# Altium schematic symbol library Pulser Driver 4,3.SCHLIB: 86 symbols
Pins are listed as number, name and electrical type; pins without a type are passive.

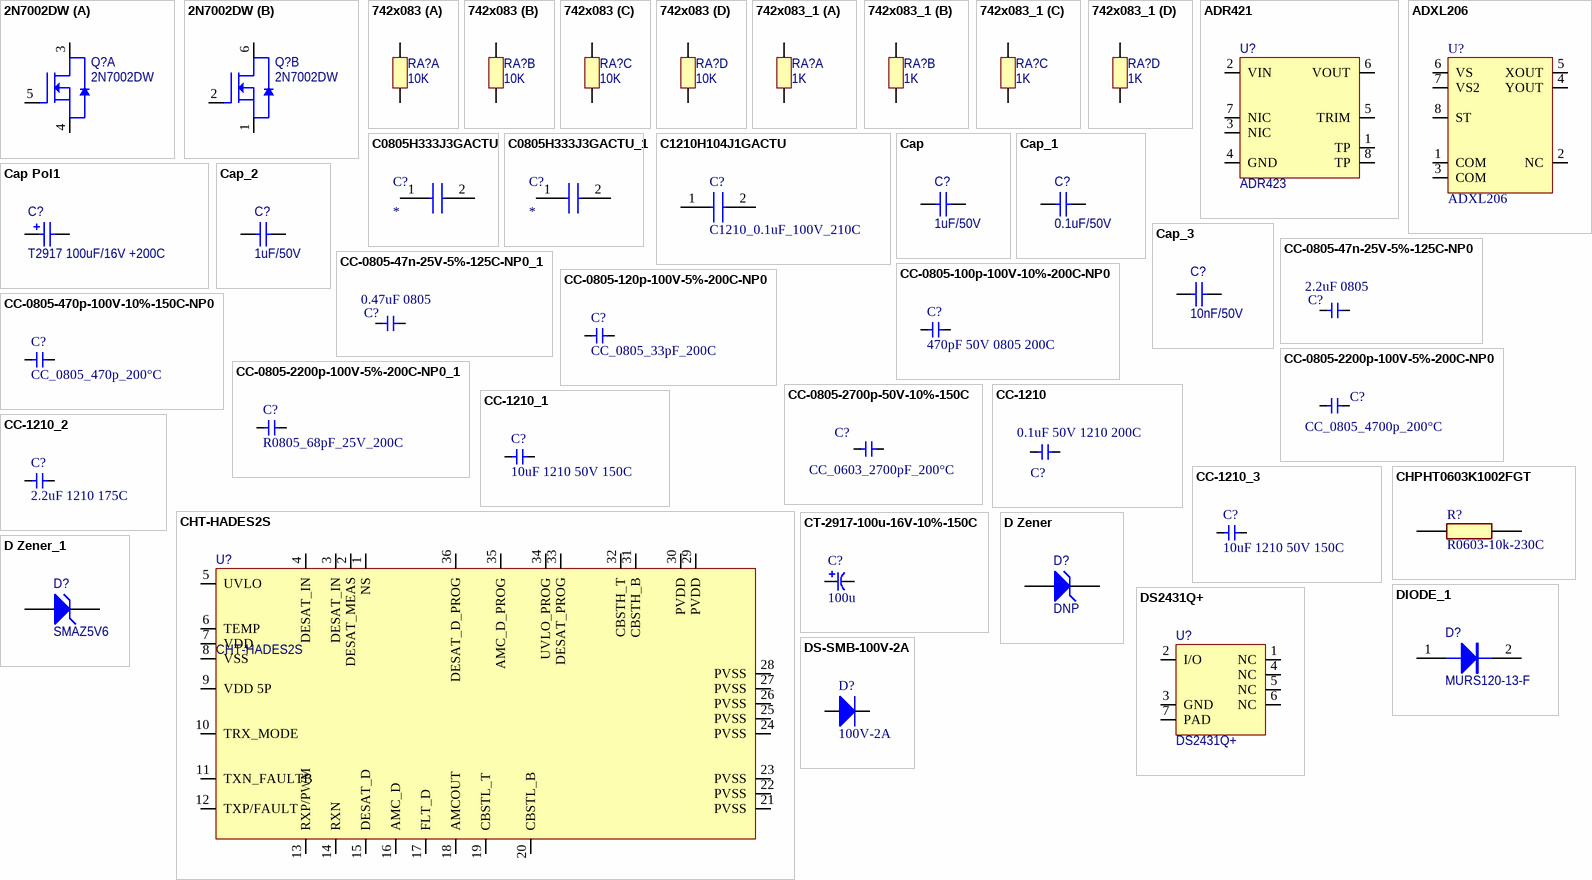
[diagram p0: symbols 2N7002DW to DS-SMB-100V-2A]

## 2N7002DW
designator Q?
2N7002DW Dual N-Channel FET SC-70-6; Manufacturer: Fairchild Semiconductor; Vendor PN: 2N7002DWCT-ND; Vendor: Digi-Key; Vertex PN: 6500000; Manu PN: 2N7002DW
footprint DCK-6
part A pins: 3 D1, 4 S1, 5 G1
part B pins: 1 S2, 2 G2, 6 D2

## 742x083
designator RA?, comment 10K
742 4-Isolated 50V (0603x4) Resistor Array; Manufacturer: CTS Resistor Products; Vendor PN: 742C083103JPCT-ND; Vendor: Digi-Key; Manu PN: 742C083103JP; Vertex PN: 6108103
footprint 742x083 (742x083 4-Isolated Resistor Array)
part A pins: 1, 2
part B pins: 3, 4
part C pins: 5, 6
part D pins: 7, 8

## 742x083_1
designator RA?, comment 1K
742 4-Isolated 50V (0603x4) Resistor Array; Manufacturer: CTS Resistor Products; Vendor PN: 742C083102JPCT-ND; Vendor: Digi-Key; Manu PN: 742C083102JP; Vertex PN: 6108102
footprint 742x083 (742x083 4-Isolated Resistor Array)
part A pins: 1, 2
part B pins: 3, 4
part C pins: 5, 6
part D pins: 7, 8

## ADR421
designator U?, comment ADR423
ADR423 3.0V Voltage Reference; Manufacturer: Analog Devices Inc; Vendor PN: ADR423ARZ-ND; Vendor: Digi-Key; Manu PN: ADR423ARZ; Vertex PN: 6400002
footprint D8
pins: 1 TP, 2 VIN, 3 NIC, 4 GND, 5 TRIM, 6 VOUT, 7 NIC, 8 TP

## ADXL206
designator U?
ADXL206 5g High Temperature Accelerometer; Manufacturer: Analog Devices Inc.; Vendor: Digi-Key; Vendor PN: ADXL206HDZ-ND; Manu PN: ADXL206HDZ; Vertex PN: 6900007
footprint SBDIP-8 (Analog Devices ceramic DIP-8)
footprint D_8_1_ADI
pins: 1 COM, 2 NC, 3 COM, 4 YOUT, 5 XOUT, 6 VS, 7 VS2, 8 ST

## C0805H333J3GACTU
designator C?
Capacitor; Manufacturer_Name: KEMET; Manufacturer_Part_Number: C0805H333J3GACTU; Description: SMD Indust C0G HT200C; Datasheet Link: https://content.kemet.com/datasheets/KEM_C1001_C0G_200C_SMD.pdf; Height: 1.1mm; Mouser Part Number: 80-C0805H333J3G; Mouser Price/Stock: https://www.mouser.com/Search/Refine.aspx?Keyword=80-C0805H333J3G
footprint C0805
pins: 1, 2

## C0805H333J3GACTU_1
designator C?
Capacitor; Manufacturer_Name: KEMET; Manufacturer_Part_Number: C0805H333J3GACTU; Description: SMD Indust C0G HT200C; Datasheet Link: https://content.kemet.com/datasheets/KEM_C1001_C0G_200C_SMD.pdf; Height: 1.1mm; Mouser Part Number: 80-C0805H333J3G; Mouser Price/Stock: https://www.mouser.com/Search/Refine.aspx?Keyword=80-C0805H333J3G
footprint C0805
pins: 1, 2

## C1210H104J1GACTU
designator C?, comment C1210_0.1uF_100V_210C
Capacitor; Manufacturer_Name: KEMET; Manufacturer_Part_Number: C1210H104J1GACTU; Datasheet Link: https://content.kemet.com/datasheets/KEM_C1001_C0G_200C_SMD.pdf; Mouser Part Number: 80-C1210H104J1GACTU; Mouser Price/Stock: https://www.mouser.co.uk/ProductDetail/KEMET/C1210H104J1GACTU?qs=w3%252Bcv6FlocpP4mccX4tnSA%3D%3D; Operating Temperature Range: -55C to +200C
footprint C1210
pins: 1, 2

## Cap
designator C?, comment 1uF/50V
Capacitor; Manufacturer: Murata Electronics North America; Vendor: Digi-Key; Vendor PN: 490-4795-1-ND; Manu PN: GCM31MR71H105KA55L; Vertex PN: 6221004
footprint VP45-3.2 (Capacitor, Ceramic, Thru-Hole, Dipped Radial; Body 7.8 x 3.2 mm (WxT) Pin Spacing 5.08 mm (typ))
footprint YC_1206
footprint 1206-CR
pins: 1, 2

## Cap Pol1
designator C?, comment T2917 100uF/16V +200C
SMT Tantalum Electrolytic Capacitor; Manufacturer: Kemet; Vendor PN: 399-T500X107K016BG6110TR-ND; Vendor: Digi-Key; Manu PN: T500X107K016BG6110; Vertex PN: 6271006-01
footprint 7343-TANT
pins: 1, 2
1 alternate drawing of the same symbol

## Cap_1
designator C?, comment 0.1uF/50V
Capacitor; Manufacturer: Murata Electronics North America; Vendor: Digi-Key; Vendor PN: 490-1666-1-ND; Manu PN: GRM21BR71H104KA01L; Vertex PN: 6280000
footprint 0805-CR
pins: 1, 2

## Cap_2
designator C?, comment 1uF/50V
Capacitor; Manufacturer: TDK; Vendor: Digi-Key; Vendor PN: 445-CGA4J1X8L1H105K125ACCT-ND; Manu PN: CGA4J1X8L1H105K125AC; Vertex PN: TBD
footprint VP45-3.2 (Capacitor, Ceramic, Thru-Hole, Dipped Radial; Body 7.8 x 3.2 mm (WxT) Pin Spacing 5.08 mm (typ))
footprint 0805-CR
pins: 1, 2

## Cap_3
designator C?, comment 10nF/50V
Capacitor; Manufacturer: Murata Electronics North America; Vendor: Digi-Key; Vendor PN: 490-1642-1-ND; Manu PN: GRM2195C1H103JA01D; Vertex PN: 6281002
footprint 0805-CR
pins: 1, 2

## CC-0805-47n-25V-5%-125C-NP0
designator C?, comment value 2.2uF 0805  (hidden comment: C0805C272K5HACTU)
CAPACITOR CER 0.047UF 25V C0G/NP0 0805; Tolerance: ±5%; Temp. Coeff.: C0G, NP0; Mfg: KEMET; MfgPN: C0805C473J3GACAUTO; Vendor: Digi-Key; VendorPN: 399-6970; Do not load: 0; Class: Epart; CES#: *; Voltage: 25V; Temperature: -55°C ~ 125°C; Height: 1.25mm; Unit Price: 0.95; Notes: *; Package: CC-0805; Dimension: 2.00mm x 1.25mm; #1Mfg: *; #1MfgPN: *; Temperature Tested: *
footprint CC-0805 (0805 footprint for capacitor)
footprint 0805
pins: 1, 2

## CC-0805-47n-25V-5%-125C-NP0_1
designator C?, comment value 0.47uF 0805  (hidden comment: C0805C272K5HACTU)
CAPACITOR CER 0.047UF 25V C0G/NP0 0805; Tolerance: ±5%; Temp. Coeff.: C0G, NP0; Mfg: KEMET; MfgPN: C0805C473J3GACAUTO; Vendor: Digi-Key; VendorPN: 399-6970; Do not load: 0; Class: Epart; CES#: *; Voltage: 25V; Temperature: -55°C ~ 125°C; Height: 1.25mm; Unit Price: 0.95; Notes: *; Package: CC-0805; Dimension: 2.00mm x 1.25mm; #1Mfg: *; #1MfgPN: *; Temperature Tested: *
footprint CC-0805 (0805 footprint for capacitor)
footprint 0805
pins: 1, 2

## CC-0805-100p-100V-10%-200C-NP0
designator C?, comment value 470pF 50V 0805 200C  (hidden comment: C1206H104J3GACTU)
CAP CER 470PF 50V C0G/NP0 0805 200C; Voltage: 100V; Tolerance: ±5%; Temp. Coeff.: C0G, NP0; Mfg: Vishay Vitramont; MfgPN: VJ0805D471JXAQJHT; Vendor: Digi-Key; VendorPN: 720-VJ0805D471JXAQJHTCT-ND; Do not load: 0; Class: Epart; Temperature: -55°C ~ 200°C; Height: 1.37mm; Unit Price: 0.34; Notes: *; Package: CC-0805; Dimension: 1.60mm x 0.80mm; #1Mfg: *; #1MfgPN: *; Temperature Tested: *
footprint CC-0805 (0805 footprint for capacitor)
footprint 0805
footprint 1210
pins: 1, 2

## CC-0805-120p-100V-5%-200C-NP0
designator C?, comment value CC_0805_33pF_200C  (hidden comment: C1206H104J3GACTU)
CAPACITOR CER 120PF 250V NP0 0805; Tolerance: ±5%; Temp. Coeff.: C0G, NP0; Mfg: Knowles Novacap; MfgPN: 0805D121J251KHT; Vendor: Digi-Key; Do not load: 0; Class: Epart; Voltage: 250V; Temperature: -55°C ~ 200°C; Height: 1.37mm; VendorPN: 0805D121J251KHT; Unit Price: 0.25; Notes: *; Package: CC-0805; Dimension: 2.03mm x 1.27mm; #1Mfg: *; #1MfgPN: *; Temperature Tested: *
footprint CC-0805 (0805 footprint for capacitor)
footprint 0805
footprint 1210
pins: 1, 2

## CC-0805-470p-100V-10%-150C-NP0
designator C?, comment value CC_0805_470p_200°C  (hidden comment: C0805H471J1GACTU)
CAPACITOR CER 470PF 100V C0G/NP0 0805; Tolerance: ±10%; Temp. Coeff.: C0G, NP0; Mfg: KEMET; Vendor: Digi-Key; VendorPN: 720-1262; Do not load: 0; Class: Epart; CES#: *; Voltage: 100V; Temperature: -55°C ~ 200°C; Height: 1.25mm; MfgPN: C0805H471J1GACTU; Unit Price: 0.47; Notes: *; Package: CC-0805; Dimension: 2.00mm x 1.25mm; #1Mfg: *; #1MfgPN: *; Temperature Tested: *
footprint CC-0805 (0805 footprint for capacitor)
footprint 0805
pins: 1, 2

## CC-0805-2200p-100V-5%-200C-NP0
designator C?, comment value CC_0805_4700p_200°C  (hidden comment: C0805H472J1GACT500)
CAPACITOR CER 2200PF 100V C0G/NP0 0805; Tolerance: ±5%; Temp. Coeff.: C0G, NP0; Mfg: KEMET; Vendor: Digi-Key; VendorPN: 399-9996-2-ND; Do not load: 0; Class: Epart; Voltage: 100V; Temperature: -55°C ~ 200°C; Height: 0.9mm; MfgPN: C0805H472J1GACT500; Unit Price: 2.65; Notes: *; Package: CC-0805; Dimension: 2.00mm x 1.25mm; #1Mfg: *; #1MfgPN: *; Temperature Tested: *; Supplier 1: Digi-Key
footprint CC-0805 (0805 footprint for capacitor)
footprint 0805
pins: 1, 2

## CC-0805-2200p-100V-5%-200C-NP0_1
designator C?, comment value R0805_68pF_25V_200C  (hidden comment: C0805H680J3GACTU)
CAPACITOR CER 2200PF 100V C0G/NP0 0805; Tolerance: ±5%; Temp. Coeff.: C0G, NP0; Mfg: KEMET; Vendor: Mouser; VendorPN: 80-C0805H680J3G; Do not load: 0; Class: Epart; Voltage: 100V; Temperature: -55°C ~ 200°C; Height: 0.9mm; MfgPN: C0805H680J3GACTU; Unit Price: 2.65; Notes: *; Package: CC-0805; Dimension: 2.00mm x 1.25mm; #1Mfg: *; #1MfgPN: *; Temperature Tested: *; Supplier 1: Digi-Key
footprint CC-0805 (0805 footprint for capacitor)
footprint 0805
pins: 1, 2

## CC-0805-2700p-50V-10%-150C
designator C?, comment value CC_0603_2700pF_200°C  (hidden comment: C1206H104J3GACTU)
CAPACITOR CER 2700PF 50V X8R 0805; Tolerance: ±5%; Temp. Coeff.: C0G; Mfg: KEMET; MfgPN: C0603H272J5GACTU; Vendor: Digi-Key; VendorPN: 399-C0603H272J5GACTUCT-ND; Do not load: 0; Class: Epart; CES#: *; Voltage: 50V; Temperature: -55°C ~ 200°C; Height: 1.25mm; Unit Price: 0.84; Notes: *; Package: CC-0805; Dimension: 2.00mm x 1.25mm; #1Mfg: *; #1MfgPN: *; Temperature Tested: *
footprint CC-0805 (0805 footprint for capacitor)
footprint 0805
footprint 1210
footprint 0603
pins: 1, 2

## CC-1210
designator C?, comment value 0.1uF 50V 1210 200C  (hidden comment: 0805D121J251KHT)
CAP CER 0.1UF 50V C0G/NP0 1210 200C; Voltage: 25V; Tolerance: ±5%; Temp. Coeff.: C0G, NP0; Mfg: KEMET; MfgPN: C1206H104J3GACTU; Vendor: Digi-Key; VendorPN: 399-5750; Do not load: 0; Class: Epart; CES#: *; Temperature: -55°C ~ 200°C; Height: 1.6mm; Unit Price: 19.5; Notes: *; Package: CC-1206; Dimension: 3.20mm x 1.60mm; #1Mfg: *; #1MfgPN: *; Temperature Tested: *
footprint CC-1206 (1206 footprint for capacitor)
footprint 1210
footprint 0805
pins: 1, 2

## CC-1210_1
designator C?, comment value 10uF 1210 50V 150C  (hidden comment: GCM32EL8EH106KA07K)
CAP CER 0.1UF 50V C0G/NP0 1210 200C; Tolerance: ±5%; Temp. Coeff.: X8L; Mfg: Murata Electronics; Vendor: Digi-Key; VendorPN: 490-GCM32EL8EH106KA07KCT-ND; Do not load: 0; Class: Epart; CES#: *; Voltage: 50V; Temperature: -55°C ~ 200°C; Height: 1.6mm; MfgPN: GCM32EL8EH106KA07K; Unit Price: 19.5; Notes: *; Package: CC-1210; Dimension: 3.20mm x 1.60mm; #1Mfg: *; #1MfgPN: *; Temperature Tested: *
footprint CC-1206 (1206 footprint for capacitor)
footprint 1210
pins: 1, 2

## CC-1210_2
designator C?, comment value 2.2uF 1210 175C  (hidden comment: C1206H104J3GACTU)
CAP CER 0.1UF 50V C0G/NP0 1210 200C; Voltage: 25V; Tolerance: ±5%; Temp. Coeff.: C0G, NP0; Mfg: KEMET; Vendor: Digi-Key; VendorPN: 399-5750; Do not load: 0; Class: Epart; CES#: *; Temperature: -55°C ~ 200°C; Height: 1.6mm; MfgPN: C1206H104J3GACTU; Unit Price: 19.5; Notes: *; Package: CC-1206; Dimension: 3.20mm x 1.60mm; #1Mfg: *; #1MfgPN: *; Temperature Tested: *
footprint CC-1206 (1206 footprint for capacitor)
footprint 1210
pins: 1, 2

## CC-1210_3
designator C?, comment value 10uF 1210 50V 150C  (hidden comment: GCM32EL8EH106KA07K)
CAP CER 0.1UF 50V C0G/NP0 1210 200C; Tolerance: ±10%; Temp. Coeff.: X8L; Mfg: Murata Electronics; Vendor: Digi-Key; VendorPN: 490-GCM32EL8EH106KA07KCT-ND; Do not load: 0; Class: Epart; CES#: *; Voltage: 50V; Temperature: -55°C ~ 150°C; Height: 1.6mm; MfgPN: GCM32EL8EH106KA07K; Unit Price: 19.5; Notes: *; Package: CC-1210; Dimension: 3.20mm x 1.60mm; #1Mfg: *; #1MfgPN: *; Temperature Tested: *
footprint CC-1206 (1206 footprint for capacitor)
footprint 1210
pins: 1, 2

## CHPHT0603K1002FGT
designator R?, comment R0603-10k-230C
Thick Film Resistors - SMD 12.5mWatts 10Kohms1% 1% 230 C Op Temp; Manufacturer_Name: Vishay; Manufacturer_Part_Number: CHPHT0603K1002FGT; Geometry.Height: 0.507mm; Mouser Part Number: 71-CHPHT0603K1002FGT; Mouser Price/Stock: https://www.mouser.co.uk/ProductDetail/Vishay-Sfernice/CHPHT0603K1002FGT?qs=hcpCFr%252B3G5Pwu6l3MBe29g%3D%3D; Datasheet Link: https://www.vishay.com/docs/52032/chpht.pdf; Operating Temperature Range: -55°C ~ 230°C
footprint RESC1609X51N
footprint 0603
pins: 1, 2

## CHT-HADES2S
designator U?
CHT-HADES2S High Temperautre Gate DRiver  Secondary Sde IC DriverL&; Manufacturer: TI; Vendor: CISSOID; Vertex PN: TBD; Manu PN: CHT-HADES2S
pins: 1 NS, 2 DESAT_MEAS, 3 DESAT_IN, 4 DESAT_IN, 5 UVLO, 6 TEMP, 7 VDD, 8 VSS, 9 VDD 5P, 10 TRX_MODE, 11 TXN_FAULTB, 12 TXP/FAULT, 13 RXP/PWM, 14 RXN, 15 DESAT_D, 16 AMC_D, 17 FLT_D, 18 AMCOUT, 19 CBSTL_T, 20 CBSTL_B, 21 PVSS, 22 PVSS, 23 PVSS, 24 PVSS, 25 PVSS, 26 PVSS, 27 PVSS, 28 PVSS, 29 PVDD, 30 PVDD, 31 CBSTH_B, 32 CBSTH_T, 33 DESAT_PROG, 34 UVLO_PROG, 35 AMC_D_PROG, 36 DESAT_D_PROG

## CT-2917-100u-16V-10%-150C
designator C?, comment value 100u  (hidden comment: 0805D121J251KHT)
CAPACITOR TANT 100UF 16V 10% 2917; Mfg: KEMET; MfgPN: T498X107K016ATE075; Vendor: Digi-Key; VendorPN: 399-5207; Do not load: 0; Class: Epart; CES#: *; Voltage: 16V; Tolerance: ±10%; Temperature: -55°C ~ 150°C; Height: 4.1mm; Unit Price: 6.63; Notes: *; Package: CT-2917; Dimension: 7.30mm x 4.30mm; #1Mfg: *; #1MfgPN: *; Temperature Tested: *
footprint CT-2917 (Capacitor, tant, 2917)
footprint TCASED
footprint 0805
pins: 1, 2

## D Zener
designator D?, comment DNP
SMAZ5V6 5.6V Zener Diode; Manufacturer: Diodes Inc; Vendor: Digi-Key; Vendor PN: SMAZ5V6-FDICT-ND; Manu PN: SMAZ5V6-13-F; Vertex PN: 6600005
footprint SMA
pins: 1 A, 2 K

## D Zener_1
designator D?, comment SMAZ5V6
SMAZ5V6 5.6V Zener Diode; Manufacturer: Diodes Inc; Vendor: Digi-Key; Vendor PN: SMAZ5V6-FDICT-ND; Manu PN: SMAZ5V6-13-F; Vertex PN: 6600005
footprint SMA
pins: 1 A, 2 K

## DIODE_1
designator D?, comment MURS120-13-F
Diode; Manufacturer: Diodes Inc.; Vendor: Digi-Key; Vendor PN: MURS120-FDITR-ND; Vertex PN: 6600001-01; Manu PN: MURS120-13-F
footprint SMA
footprint SMB-D
pins: 1 A, 2 K

## DS2431Q+
designator U?
DS2431Q+ 1-Wire 1kbit EEPROM; Manufacturer: Maxim Integrated; Manu PN: DS2431Q+T&R; Vendor PN: DS2431Q+T&RCT-ND; Vendor: Digi-Key; Vertex PN: 6400032
footprint TDFN-6 (Maxim 1-Wire TDFN 6-Pin 3mm x 3mm)
pins: 1 NC, 2 I/O, 3 GND, 4 NC, 5 NC, 6 NC, 7 PAD

## DS-SMB-100V-2A
designator D?, comment value 100V-2A  (hidden comment: STPS2H100UY)
DIODE SCHOTTKY 100V 2A SMB; Mfg: STMicroelectronics; Vendor: Digi-Key; VendorPN: 497-11093; Do not load: 0; Class: Epart; CES#: *; Temperature: -40°C ~ 175°C; Voltage: 100V; Height: 1.9 mm; MfgPN: STPS2H100UY; Unit Price: 0.81; Notes: *; Current: 2A; Package: SMB; Dimension: 3.5 X 2.8 X 1.9 mm; #1Mfg: *; #1MfgPN: *; Temperature Tested: *
footprint DS-SMB (SMB footprint for diode)
footprint SMB
pins: A, K

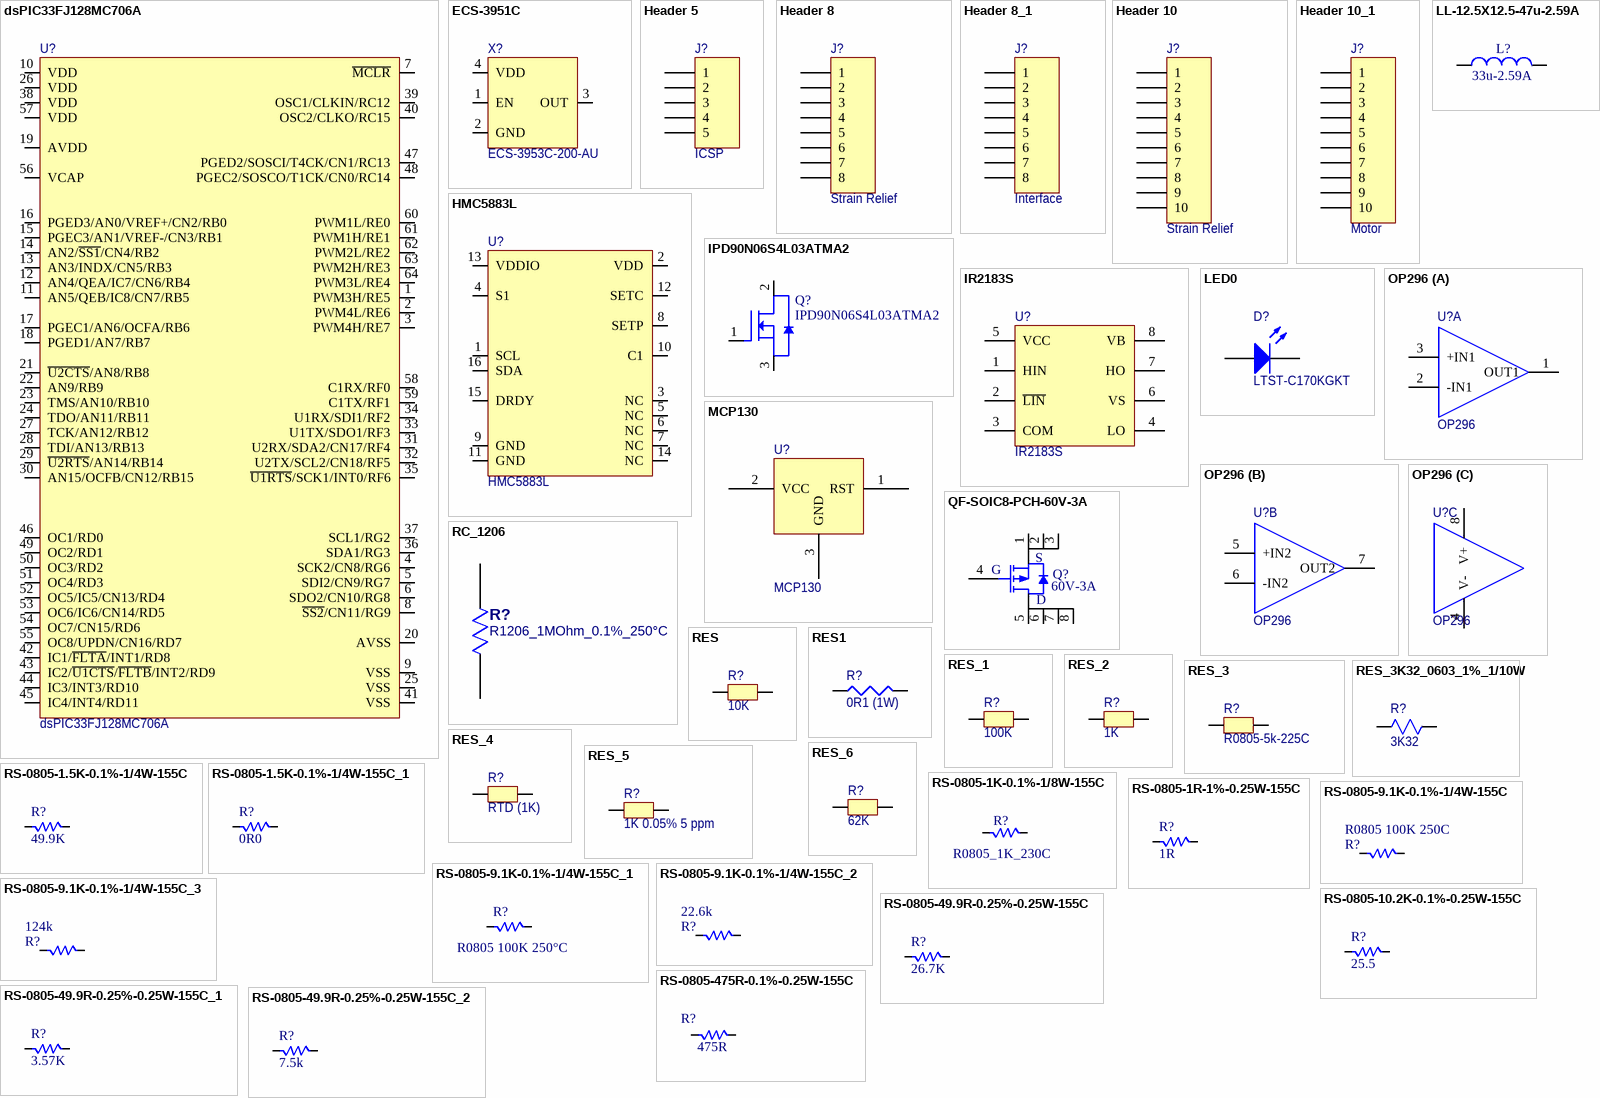
[diagram p1: symbols dsPIC33FJ128MC706A to RS-0805-475R-0.1%-0.25W-155C]

## dsPIC33FJ128MC706A
designator U?
Manufacturer: Microchip Technology; Vendor PN: DSPIC33FJ128MC706A-I/PT-ND; Vendor: Digi-Key; Manu PN: DSPIC33FJ128MC706A-I/PT; Vertex PN: 6400000
footprint QFP10X10-64 (MICROCHIP)
pins: 1 PWM3H/RE5, 2 PWM4L/RE6, 3 PWM4H/RE7, 4 SCK2/CN8/RG6, 5 SDI2/CN9/RG7, 6 SDO2/CN10/RG8, 7 ~{MCLR}, 8 ~{SS2}/CN11/RG9, 9 VSS, 10 VDD, 11 AN5/QEB/IC8/CN7/RB5, 12 AN4/QEA/IC7/CN6/RB4, 13 AN3/INDX/CN5/RB3, 14 AN2/~{SS1}/CN4/RB2, 15 PGEC3/AN1/VREF-/CN3/RB1, 16 PGED3/AN0/VREF+/CN2/RB0, 17 PGEC1/AN6/OCFA/RB6, 18 PGED1/AN7/RB7, 19 AVDD, 20 AVSS, 21 ~{U2CTS}/AN8/RB8, 22 AN9/RB9, 23 TMS/AN10/RB10, 24 TDO/AN11/RB11, 25 VSS, 26 VDD, 27 TCK/AN12/RB12, 28 TDI/AN13/RB13, 29 ~{U2RTS}/AN14/RB14, 30 AN15/OCFB/CN12/RB15, 31 U2RX/SDA2/CN17/RF4, 32 U2TX/SCL2/CN18/RF5, 33 U1TX/SDO1/RF3, 34 U1RX/SDI1/RF2, 35 ~{U1RTS}/SCK1/INT0/RF6, 36 SDA1/RG3, 37 SCL1/RG2, 38 VDD, 39 OSC1/CLKIN/RC12, 40 OSC2/CLKO/RC15, 41 VSS, 42 IC1/~{FLTA}/INT1/RD8, 43 IC2/~{U1CTS}/~{FLTB}/INT2/RD9, 44 IC3/INT3/RD10, 45 IC4/INT4/RD11, 46 OC1/RD0, 47 PGED2/SOSCI/T4CK/CN1/RC13, 48 PGEC2/SOSCO/T1CK/CN0/RC14, 49 OC2/RD1, 50 OC3/RD2, 51 OC4/RD3, 52 OC5/IC5/CN13/RD4, 53 OC6/IC6/CN14/RD5, 54 OC7/CN15/RD6, 55 OC8/UPDN/CN16/RD7, 56 VCAP, 57 VDD, 58 C1RX/RF0, 59 C1TX/RF1, 60 PWM1L/RE0, 61 PWM1H/RE1, 62 PWM2L/RE2, 63 PWM2H/RE3, 64 PWM3L/RE4

## ECS-3951C
designator X?, comment ECS-3953C-200-AU
ECS-3951C 5V Oscillator; Manufacturer: ECS Inc; Vendor PN: XC1447TR-ND; Manu PN: ECS-3953M-200-AU-TR; Vendor: Digi-Key; Vertex PN: 6400011-01
footprint ECS-3951C
pins: 1 EN, 2 GND, 3 OUT, 4 VDD

## Header 5
designator J?, comment ICSP
Header, 5-Pin
footprint HDR1x5 - 0.050" (Header Pin Connector - 0.050" Pitch)
pins: 1, 2, 3, 4, 5

## Header 8
designator J?, comment Strain Relief
Header, 8-Pin
footprint HDR1X8
footprint HDR1X8
footprint HDR1X8
pins: 1, 2, 3, 4, 5, 6, 7, 8

## Header 8_1
designator J?, comment Interface
Header, 8-Pin
footprint HDR1X8
pins: 1, 2, 3, 4, 5, 6, 7, 8

## Header 10
designator J?, comment Strain Relief
Header, 10-Pin
footprint HDR1X10
pins: 1, 2, 3, 4, 5, 6, 7, 8, 9, 10

## Header 10_1
designator J?, comment Motor
Header, 10-Pin
footprint HDR1X10
pins: 1, 2, 3, 4, 5, 6, 7, 8, 9, 10

## HMC5883L
designator U?
HMC5883L 3-Axis Digital Magnetometer; Manufacturer: Honeywell Microelectronics & Precision Sensors; Vendor PN: 342-1082-1-ND; Manu PN: HMC5883L-TR; Vendor: Digi-Key; Vertex PN: 6900002
footprint HMC5883L (HMC5883L 3-Axis Magnetometer)
pins: 1 SCL, 2 VDD, 3 NC, 4 S1, 5 NC, 6 NC, 7 NC, 8 SETP, 9 GND, 10 C1, 11 GND, 12 SETC, 13 VDDIO, 14 NC, 15 DRDY, 16 SDA

## IPD90N06S4L03ATMA2
designator Q?
MOSFET N-CH 60V 90A TO252-31; Manufaturer: Infineon; Vendor: Digi-Key; Vendor PN: 448-IPD90N06S4L03ATMA2CT-ND; Manu PN: IPD90N06S4L03ATMA2
footprint TO-252AA (TO-252AA (DPAK))
footprint TO-252
footprint TO228P998X235-3N-2-V (TO,2.28mm pitch;2 pin,9.98mm L X 6.12mm W X 2.35mm H body)
pins: 1 G, 2 D, 3 S

## IR2183S
designator U?
IR2183S Dual High/Low Side FET Driver; Manufacturer: International Rectifier; Vendor PN: IR2183SPBFCT-ND; Manu PN: IR2183STRPBF; Vendor: Digi-Key; Vertex PN: 6400005
footprint D8
footprint D8
footprint Model Name (Footprint not found)
footprint Model Name (Footprint not found)
pins: 1 HIN, 2 ~{LIN}, 3 COM, 4 LO, 5 VCC, 6 VS, 7 HO, 8 VB

## LED0
designator D?, comment LTST-C170KGKT
Green Clear SMT 0805 LED; Manufacturer: Lite-On Inc; Vendor PN: 160-1414-1-ND; Vendor: Digi-Key; Vertex PN: 6600006; Manu PN: LTST-C170KGKT
footprint 0805-D
pins: 1 A, 2 K

## LL-12.5X12.5-47u-2.59A
designator L?, comment value 33u-2.59A  (hidden comment: DRA125-470-R)
INDUCTOR 47UH 2.59A 81 MOHM; DC Resistance (DCR): 81 mOhm; Mfg: Eaton; Vendor: Digi-Key; VendorPN: 283-3577; Do not Load: 0; Tolerance: ±20%; Class: Epart; CES#: *; Temperature: -40°C ~ 165°C; Height: 6 mm; MfgPN: DRA125-470-R; Unit Price: 4.36; Current: 2.59A; Package: LL-12.5X12.5; Dimension: 12.50mm x 12.50mm; #2Mfg: *; #2MfgPN: *; Temperature Tested: *
footprint LL-12.5X12.5 (INDUCTOR PWR 68UH 30% SHIELD SMD)
footprint IND_CB_DRA125
pins: 1, 2

## MCP130
designator U?
MCP130 Open Drain SVS with Internal Pull-up; Manufacturer: Microchip Technology; Manu PN: MCP130T-300I/TT; Vendor: Digi-Key; Vendor PN: MCP130T-300I/TTCT-ND; Vertex PN: 6400009
footprint DGS
pins: 1 RST, 2 VCC, 3 GND

## OP296
designator U?
OP296 Micropower Op Amp; Manufacturer: Analog Devices Inc; Vendor: Digi-Key; Vendor PN: OP296GSZ-ND; Manu PN: OP296GSZ; Vertex PN: 6400010
footprint D8
part A pins: 1 OUT1, 2 -IN1, 3 +IN1
part B pins: 5 +IN2, 6 -IN2, 7 OUT2
part C pins: 4 V-, 8 V+

## QF-SOIC8-PCH-60V-3A
designator Q?, comment value 60V-3A  (hidden comment: NDS9407)
MOSFET P-CH 60V 3A 8-SOIC; Mfg: ON Semiconductor; Vendor: Digi-Key; Do not Load: 0; Power: 2.5W (Ta); Rds On: 150 mOhm @ 3A, 10V; Class: Epart; Temperature: -55°C ~ 175°C (TJ); Voltage: 60V; Height: 1.7 mm; MfgPN: NDS9407; VendorPN: NDS9407; Unit price: 1.55; Package: SOIC8; Dimension: 6.2 X 5.0 X 1.7 mm; Current: 3A; #2Mfg: *; #2MfgPN: *; Temperature Tested: *
footprint SOIC_S9407_ONS
pins: 1 S, 2 S, 3 S, 4 G, 5 D, 6 D, 7 D, 8 D

## RC_1206
designator R?, comment R1206_1MOhm_0.1%_250°C
1206; Part Field 1: Description Resistor in 1206 package; MPN: PATT1206E1004BGT1; Mfr: Vishay Dale Thin Film
footprint 1206
pins: 1 A, 2 B

## RES
designator R?, comment 10K
Resistor; Manufacturer: Yageo; Vendor PN: 311-10.0KCRCT-ND; Vendor: Digi-Key; Manu PN: RC0805FR-0710KL; Vertex PN: 6181002
footprint 0805-CR
pins: 1, 2

## RES1
designator R?, comment 0R1 (1W)
RES 0.1 OHM 1% 1W 2512; Manufacturer: Vishay/Dale; Vendor: Digi-Key; Vendor PN: WSLG-.10CT-ND; Manu PN: WSL2512R1000FEA; Vertex PN: 6150001
footprint R0805N
footprint R0603N
footprint R1206N
footprint RCMF
footprint WSL2816 (WSL2816 Current Sense Resistor (2 W))
footprint 2512-CR
pins: 1, 2

## RES_1
designator R?, comment 100K
Resistor; Manufacturer: Yageo; Vendor PN: 311-100KCRCT-ND; Vendor: Digi-Key; Manu PN: RC0805FR-07100KL; Vertex PN: 6181003
footprint 0805-CR
pins: 1, 2

## RES_2
designator R?, comment 1K
Resistor; Manufacturer: Yageo; Vendor PN: 311-1.00KCRCT-ND; Vendor: Digi-Key; Manu PN: RC0805FR-071KL; Vertex PN: 6180102
footprint 0805-CR
pins: 1, 2

## RES_3
designator R?, comment R0805-5k-225C
Resistor; Manufacturer: VPG Foil Resistors; Vendor PN: Y4062-5.0KACT-ND; Vendor: Digi-Key; Manu PN: Y40625K00000Q0R
footprint 0805-CR
footprint *RESC2012X64N
footprint 0805
pins: 1, 2

## RES_3K32_0603_1%_1/10W
designator R?, comment 3K32
3.32K OHM 1% 1/8W 0603; Manufacturer: Vishay; Vendor PN: 541-MCT0603MC3321FP500TR-ND; Vendor: Digi-Key; Manu PN: MCT0603MC3321FP500; Vertex PN: TBD; Supplier 1: Digikey; Supplier Part Number 1: 541-MCT0603MC3321FP500TR-ND
footprint 0603-CR
footprint 0603
pins: 1, 2

## RES_4
designator R?, comment RTD (1K)
Resistor Thermal Device; Manufacturer: TE Connectivity; Vendor PN: 223-1812-ND; Vendor: Digikey; Manu PN: NB-PTCO-164; Vertex PN: 6900005-02; Supplier 1: Digikey; Supplier Part Number 1: 223-1812-ND
footprint F2020 (F2020 Resistive Temperature Detector)
pins: 1, 2

## RES_5
designator R?, comment 1K 0.05% 5 ppm
Resistor; Manufacturer: Vishay/Thin Film; Vendor PN: PLT0805-1.0KACT-ND; Vendor: Digi-Key; Manu PN: PLT0805Z1001AST5; Vertex PN: 6181102
footprint 0805-CR
pins: 1, 2

## RES_6
designator R?, comment 62K
Resistor; Manufacturer: Yageo; Vendor PN: 311-62.0KCRCT-ND; Vendor: Digi-Key; Manu PN: RC0805FR-0762KL; Vertex PN: 6186202
footprint 0805-CR
pins: 1, 2

## RS-0805-1.5K-0.1%-1/4W-155C
designator R?, comment value 49.9K  (hidden comment: PATT0603E49R9BGT1)
49.9 Ohms ±0.1% 0.15W Chip Resistor 0603 (1608 Metric) Anti-Sulfur, Automotive AEC-Q200, Moisture Resistant Thin Film; Temp. Coeff.: ±25ppm/°C; Mfg: Vishay Dale Thin Film; Vendor: Digi-Key; VendorPN: 764-1019-1-ND; Do not load: 0; Power: 0.250W; Class: Epart; CES#: *; Tolerance: ±0.1%; Temperature: -55°C ~ 255°C; Height: 0.46 mm; MfgPN: PATT0603E49R9BGT1; Notes: *; Package: RS-0805; Dimension: 2.00mm x 1.25mm; #2Mfg: *; #2MfgPN: *; Temperature Tested: *
footprint RS-0805 (0805 footprint for resistor)
footprint 0805
pins: 1, 2

## RS-0805-1.5K-0.1%-1/4W-155C_1
designator R?, comment value 0R0  (hidden comment: PATT0603E49R9BGT1)
49.9 Ohms ±0.1% 0.15W Chip Resistor 0603 (1608 Metric) Anti-Sulfur, Automotive AEC-Q200, Moisture Resistant Thin Film; Temp. Coeff.: ±25ppm/°C; Mfg: Vishay Dale Thin Film; Vendor: Digi-Key; VendorPN: 764-1019-1-ND; Do not load: 0; Power: 0.250W; Class: Epart; CES#: *; Tolerance: ±0.1%; Temperature: -55°C ~ 255°C; Height: 0.46 mm; MfgPN: PATT0603E49R9BGT1; Notes: *; Package: RS-0805; Dimension: 2.00mm x 1.25mm; #2Mfg: *; #2MfgPN: *; Temperature Tested: *
footprint RS-0805 (0805 footprint for resistor)
footprint 0805
pins: 1, 2

## RS-0805-1K-0.1%-1/8W-155C
designator R?, comment value R0805_1K_230C  (hidden comment: ERJ-PB6B6812V)
RESISTOR SMD 1K OHM 0.1% 1/8W 0805; Tolerance: ±1%; Temp. Coeff.: ±25ppm/°C; Mfg: Vishay / Sfernice; MfgPN: CHPHT0805K1001FGT; Vendor: Mouser; VendorPN: 71-CHPHT0805K1001FGT; Do not load: 0; Power: 0.125W; Class: Epart; CES#: *; Temperature: -55°C ~ 230°C; Height: 0.7 mm; Notes: *; Package: RS-0805; Dimension: 2.00mm x 1.25mm; #2Mfg: *; #2MfgPN: *; Temperature Tested: *
footprint RS-0805 (0805 footprint for resistor)
footprint 0805
pins: 1, 2

## RS-0805-1R-1%-0.25W-155C
designator R?, comment value 1R  (hidden comment: RS73F2ATTD1501B)
RESISTOR SMD 1 OHM 1% 1/4W 0805; Temp. Coeff.: ±100ppm/°C; Mfg: Stackpole Electronics Inc.; MfgPN: RNCP0805FTD1R00; Vendor: Digi-Key; Do not load: 0; Power: 0.25W; Class: Epart; CES#: *; Tolerance: ±1%; Temperature: -55°C ~ 155°C; Height: 0.7 mm; VendorPN: RNCP0805FTD1R00; Unit Price: 0.15; Notes: *; Package: RS-0805; Dimension: 2.00mm x 1.25mm; #2Mfg: *; #2MfgPN: *; Temperature Tested: *
footprint RS-0805 (0805 footprint for resistor)
footprint 0805
pins: 1, 2

## RS-0805-9.1K-0.1%-1/4W-155C
designator R?, comment value R0805 100K 250C  (hidden comment: PATT0805E1003BGT1)
100 kOhms ±0.1% 0.2W, 1/5W Chip Resistor 0805 (2012 Metric); Temp. Coeff.: ±25ppm/°C; Mfg: Vishay Dale Thin Film; Vendor: Digi-Key; VendorPN: 764-1065-1-ND; Do not load: 0; Power: 0.25W; Class: Epart; Tolerance: ±0.1%; Temperature: -55°C ~ 250°C; Height: 0.46 mm; MfgPN: PATT0805E1003BGT1; Unit Price: 0.55; Notes: *; Package: RS-0805; Dimension: 1.60mm x 0.80mm; #2Mfg: *; #2MfgPN: *; Temperature Tested: *
footprint RS-0805 (0805 footprint for resistor)
footprint 0805
pins: 1, 2

## RS-0805-9.1K-0.1%-1/4W-155C_1
designator R?, comment value R0805 100K 250°C  (hidden comment: PATT0805E1003BGT1)
100 kOhms ±0.1% 0.2W, 1/5W Chip Resistor 0805 (2012 Metric); Temp. Coeff.: ±25ppm/°C; Mfg: Vishay Dale Thin Film; Vendor: Digi-Key; VendorPN: 764-1065-1-ND; Do not load: 0; Power: 0.25W; Class: Epart; Tolerance: ±0.1%; Temperature: -55°C ~ 250°C; Height: 0.46 mm; MfgPN: PATT0805E1003BGT1; Unit Price: 0.55; Notes: *; Package: RS-0805; Dimension: 1.60mm x 0.80mm; #2Mfg: *; #2MfgPN: *; Temperature Tested: *
footprint RS-0805 (0805 footprint for resistor)
footprint 0805
pins: 1, 2

## RS-0805-9.1K-0.1%-1/4W-155C_2
designator R?, comment value 22.6k  (hidden comment: PATT0805E1003BGT1)
100 kOhms ±0.1% 0.2W, 1/5W Chip Resistor 0805 (2012 Metric); Temp. Coeff.: ±25ppm/°C; Mfg: Vishay Dale Thin Film; Vendor: Digi-Key; VendorPN: 764-1065-1-ND; Do not load: 0; Power: 0.25W; Class: Epart; Tolerance: ±0.1%; Temperature: -55°C ~ 250°C; Height: 0.46 mm; MfgPN: PATT0805E1003BGT1; Unit Price: 0.55; Notes: *; Package: RS-0805; Dimension: 1.60mm x 0.80mm; #2Mfg: *; #2MfgPN: *; Temperature Tested: *
footprint RS-0805 (0805 footprint for resistor)
footprint 0805
pins: 1, 2

## RS-0805-9.1K-0.1%-1/4W-155C_3
designator R?, comment value 124k  (hidden comment: PATT0805E1003BGT1)
100 kOhms ±0.1% 0.2W, 1/5W Chip Resistor 0805 (2012 Metric); Temp. Coeff.: ±25ppm/°C; Mfg: Vishay Dale Thin Film; Vendor: Digi-Key; VendorPN: 764-1065-1-ND; Do not load: 0; Power: 0.25W; Class: Epart; Tolerance: ±0.1%; Temperature: -55°C ~ 250°C; Height: 0.46 mm; MfgPN: PATT0805E1003BGT1; Unit Price: 0.55; Notes: *; Package: RS-0805; Dimension: 1.60mm x 0.80mm; #2Mfg: *; #2MfgPN: *; Temperature Tested: *
footprint RS-0805 (0805 footprint for resistor)
footprint 0805
pins: 1, 2

## RS-0805-10.2K-0.1%-0.25W-155C
designator R?, comment value 25.5  (hidden comment: ERJ-PB6B1004V)
RESISTOR SMD 10.2K OHM 1% 1/4W 0805; Temp. Coeff.: ±50ppm/°C; Mfg: Panasonic Electronic Components; MfgPN: ERJ-PB6B1022V; Vendor: Digi-Key; VendorPN: P20709TR-ND; Do not load: 0; Power: 0.25W; Class: Epart; Tolerance: ±1%; Temperature: -55°C ~ 155°C; Height: 0.7 mm; Unit Price: 0.55; Notes: *; Package: RS-0805; Dimension: 2.00mm x 1.25mm; #2Mfg: *; #2MfgPN: *; Temperature Tested: *
footprint RS-0805 (0805 footprint for resistor)
footprint 0805
pins: 1, 2

## RS-0805-49.9R-0.25%-0.25W-155C
designator R?, comment value 26.7K  (hidden comment: RNCP0805FTD1R00)
RESISTOR SMD 49.9 OHM 0.1% 1/25W 0805; Temp. Coeff.: ±25ppm/°C; Mfg: KOA Speer Electronics, Inc.; MfgPN: RS73G2ATTD49R9C; Vendor: Digi-Key; VendorPN: 2019-RS73G2ATTD49R9CTR-ND; Do not load: 0; Power: 0.25W; Class: Epart; Tolerance: ±0.1%; Temperature: -55°C ~ 155°C; Height: 0.5 mm; Unit Price: 0.113; Notes: *; Package: RS-0603; Dimension: 1.60mm x 0.80mm; #2Mfg: *; #2MfgPN: *; Temperature Tested: *
footprint RS-0805 (0805 footprint for resistor)
footprint 0805
pins: 1, 2

## RS-0805-49.9R-0.25%-0.25W-155C_1
designator R?, comment value 3.57K  (hidden comment: RNCP0805FTD1R00)
RESISTOR SMD 49.9 OHM 0.1% 1/25W 0805; Temp. Coeff.: ±25ppm/°C; Mfg: KOA Speer Electronics, Inc.; MfgPN: RS73G2ATTD49R9C; Vendor: Digi-Key; VendorPN: 2019-RS73G2ATTD49R9CTR-ND; Do not load: 0; Power: 0.25W; Class: Epart; Tolerance: ±0.1%; Temperature: -55°C ~ 155°C; Height: 0.5 mm; Unit Price: 0.113; Notes: *; Package: RS-0603; Dimension: 1.60mm x 0.80mm; #2Mfg: *; #2MfgPN: *; Temperature Tested: *
footprint RS-0805 (0805 footprint for resistor)
footprint 0805
pins: 1, 2

## RS-0805-49.9R-0.25%-0.25W-155C_2
designator R?, comment value 7.5k  (hidden comment: RNCP0805FTD1R00)
RESISTOR SMD 49.9 OHM 0.1% 1/25W 0805; Temp. Coeff.: ±25ppm/°C; Mfg: KOA Speer Electronics, Inc.; MfgPN: RS73G2ATTD49R9C; Vendor: Digi-Key; VendorPN: 2019-RS73G2ATTD49R9CTR-ND; Do not load: 0; Power: 0.25W; Class: Epart; Tolerance: ±0.1%; Temperature: -55°C ~ 155°C; Height: 0.5 mm; Unit Price: 0.113; Notes: *; Package: RS-0603; Dimension: 1.60mm x 0.80mm; #2Mfg: *; #2MfgPN: *; Temperature Tested: *
footprint RS-0805 (0805 footprint for resistor)
footprint 0805
pins: 1, 2

## RS-0805-475R-0.1%-0.25W-155C
designator R?, comment value 475R  (hidden comment: ERJ-PB6B6812V)
RESISTOR SMD 475 OHM 0.1% 1/10W 0805; Temp. Coeff.: ±50ppm/°C; Mfg: Panasonic Electronic Components; MfgPN: ERJ-PB6B4750V; Vendor: Digi-Key; VendorPN: P20557; Do not load: 0; Power: 0.25W; Class: Epart; Tolerance: ±0.1%; Temperature: -55°C ~ 155°C; Height: 0.7 mm; Unit Price: 0.55; Notes: *; Package: RS-0805; Dimension: 2.00mm x 1.25mm; #2Mfg: *; #2MfgPN: *; Temperature Tested: *
footprint RS-0805 (0805 footprint for resistor)
footprint 0805
pins: 1, 2

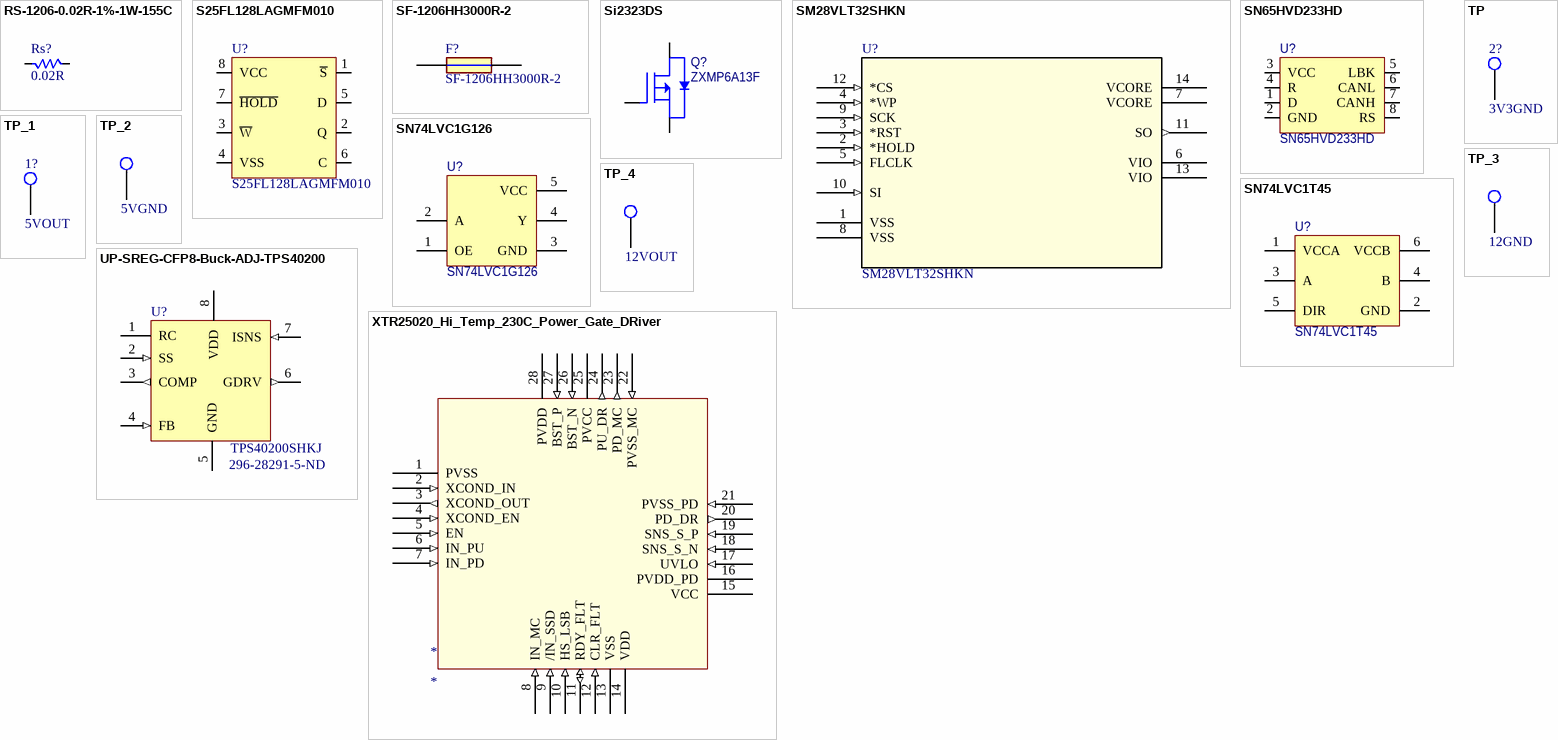
[diagram p2: symbols RS-1206-0.02R-1%-1W-155C to XTR25020_Hi_Temp_230C_Power_Gate_DRiver]

## RS-1206-0.02R-1%-1W-155C
designator Rs?, comment value 0.02R  (hidden comment: ERJ-8CWFR020V)
RESISTOR SMD 0.02 OHM 1% 1W 1206; Temp. Coeff.: ±75ppm/°C; Mfg: Panasonic Electronic Components; Vendor: Digi-Key; VendorPN: P0.02BV; Do not load: 0; Class: Epart; CES#: *; Tolerance: ±1%; Temperature: -55°C ~ 155°C; Height: 0.6; MfgPN: ERJ-8CWFR020V; Unit Price: 1.04; Notes: *; Power: 1W; Package: RS-1206; Dimension: 1.60mm x 3.20mm; #2Mfg: *; #2MfgPN: *; Temperature Tested: *
footprint RS-1206 (1206 footprint for resistor)
footprint 1206
pins: 1, 2

## S25FL128LAGMFM010
designator U?
FLASH - NOR Memory IC 128Mbit SPI - Quad I/O, QPI 133 MHz 8-SOIC; Manufacturer: Infineon Technologies; Vendor: Digi-Key; Vendor PN: 448-S25FL128LAGMFM010-ND; Vertex PN: TBD; Manu PN: S25FL128LAGMFM010; ComponentLink1Description: New link; ComponentLink1URL: *; Supplier 1: Digikey; Supplier Part Number 1: 448-S25FL128LAGMFM010-ND
footprint SO8W
pins: 1 ~{S}, 2 Q, 3 ~{W}, 4 VSS, 5 D, 6 C, 7 ~{HOLD}, 8 VCC

## SF-1206HH3000R-2
designator F?
1206 high-current met-foil. 30A; Manufacturer_Name: Bourns; Geometry.Height: 1.2mm; Mouser Part Number: 652-SF-1206HH3000R-2; Mouser Price/Stock: https://www.mouser.co.uk/ProductDetail/Bourns/SF-1206HH3000R-2?qs=Imq1NPwxi749RSSbSyFccA%3D%3D; Manufacturer_Part_Number: SF-1206HH3000R-2; Datasheet Link: https://www.bourns.com/docs/Product-Datasheets/SF-1206HH-R.pdf
footprint SF1206HH3000R2
pins: 1, 2

## Si2323DS
designator Q?, comment ZXMP6A13F
ZXMP6A13F 60V P-channel FET; Manufacturer: Diodes/Zetex; Manu PN: ZXMP6A13FTA; Vendor: Digi-Key; Vendor PN: ZXMP6A13FCT-ND; Vertex PN: 6500003
footprint DGS
footprint SOT-23_DIO
pins: 1 G, 2 S, 3 D

## SM28VLT32SHKN
designator U?
No Description Available; Manufacturer_Name: Texas Instruments; Copyright: Copyright (C) 2025 Ultra Librarian. All rights reserved.; Manufacturer_Part_Number: SM28VLT32SHKN; Datasheet: https://www.ti.com/lit/gpn/sm28vlt32-ht; RefDes: RefDes; Type: Type
footprint HKN14
pins: 1 VSS (power), 2 *HOLD (in), 3 *RST (in), 4 *WP (in), 5 FLCLK (in), 6 VIO (power), 7 VCORE (power), 8 VSS (power), 9 SCK (in), 10 SI (in), 11 SO (out), 12 *CS (in), 13 VIO (power), 14 VCORE (power)

## SN65HVD233HD
designator U?
CAN Transceiver, 3V3; Manufacturer: TI; Vendor: DigiKey; Vendor PN: 296-28288-5-ND; Vertex PN: TBD; Manu PN: SN65HVD233HD
footprint D8 (Texas Instruments SO-8)
pins: 1 D, 2 GND, 3 VCC, 4 R, 5 LBK, 6 CANL, 7 CANH, 8 RS

## SN74LVC1G126
designator U?
SN74LVC1G126DBV Tri-state Buffer (Non-Inverting OE); Manufacturer: Texas Instruments; Vendor: Digi-Key; Vendor PN: 296-11605-1-ND; Manu PN: SN74LVC1G126DBVR; Vertex PN: 6400024
footprint DBV-5 (SOT-23-5 Footprint for TI devices)
pins: 1 OE, 2 A, 3 GND, 4 Y, 5 VCC

## SN74LVC1T45
designator U?
SN74LVC1T45 One Channel Level Shifter/Transceiver; Manufacturer: Texas Instruments; Vendor: Digi-Key; Vendor PN: 74LVC1T45W6-7DICT-ND; Manu PN: 74LVC1T45W6-7; Vertex PN: 6400001-01
footprint DCK-6
footprint DBV-6
pins: 1 VCCA, 2 GND, 3 A, 4 B, 5 DIR, 6 VCCB

## TP
designator 2?, comment 3V3GND  (no BOM)
Test  Point; Number: PMT104887; Subtype: Test Loop; Num Connections: 1; RoHS: 0; Package: Through hole
footprint Test Point - Loop - SMALL
footprint TP-40 (SMD Test Point, 40mils Round)
footprint TP-3520-SK
footprint TP-S
pins: 1

## TP_1
designator 1?, comment 5VOUT  (no BOM)
Test  Point; Number: PMT104887; Subtype: Test Loop; Num Connections: 1; RoHS: 0; Package: Through hole
footprint Test Point - Loop - SMALL
footprint TP-40 (SMD Test Point, 40mils Round)
footprint TP-3520-SK
footprint TP-S
pins: 1

## TP_2
designator 4?, comment 5VGND  (no BOM)
Test  Point; Number: PMT104887; Subtype: Test Loop; Num Connections: 1; RoHS: 0; Package: Through hole
footprint Test Point - Loop - SMALL
footprint TP-40 (SMD Test Point, 40mils Round)
footprint TP-3520-SK
footprint TP-S
pins: 1

## TP_3
designator 6?, comment 12GND  (no BOM)
Test  Point; Number: PMT104887; Subtype: Test Loop; Num Connections: 1; RoHS: 0; Package: Through hole
footprint Test Point - Loop - SMALL
footprint TP-40 (SMD Test Point, 40mils Round)
footprint TP-3520-SK
footprint TP-S
pins: 1

## TP_4
designator 5?, comment 12VOUT  (no BOM)
Test  Point; Number: PMT104887; Subtype: Test Loop; Num Connections: 1; RoHS: 0; Package: Through hole
footprint Test Point - Loop - SMALL
footprint TP-40 (SMD Test Point, 40mils Round)
footprint TP-3520-SK
footprint TP-S
pins: 1

## UP-SREG-CFP8-Buck-ADJ-TPS40200
designator U?, comment Supplier Part Number 1: 296-28291-5-ND  (hidden comment: TPS40200SHKJ)
IC REG CTRLR BUCK 8CFP; Mfg: Texas Instruments; Vendor: Digi-Key; VendorPN: 296-28291; Do not load: 0; Voltage Output: Adjustive; Voltage Input: 5.5 V ~ 52 V; Class: Epart; Topology: Buck; Temperature: -55°C ~ 210°C (TA); Height: 2.0 mm; MfgPN: TPS40200SHKJ; Unit Price: 140.54; Notes: *; Package: CFP-8; Dimension: 24.7 X 7.3 X 2.0; #2Mfg: *; #2MfgPN: *; Temperature Tested: *; Value: TPS40200SHKJ; Supplier 1: Digi-Key
footprint CFP-8 (Ceramic Dual Flatpack)
footprint SOIC127P599X175-8N
footprint SOIC_S9407_ONS
pins: 1 RC "Switching frequency-setting RC network. Connect capacitor from RC pin to GND pin and resistor from VINpin to RC pin. The device may be synchronized to an external clock by connecting an open-drain output tothis pin and (See Datasheet)", 2 SS (in) "Soft-start programming pin. Connect capacitor from SS to GND to program soft-start time. Pulling this pin SS 2 I below 150 mV causes the output switching to stop, placing the device in a shutdown state. The pin also (See Datasheet)", 3 COMP (out) "Compensation. Error amplifier output. Connect control-loop compensation network from COMP to FB.", 4 FB (in) "Feedback. Error amplifier inverting input. Connect feedback resistor network center tap to this pin.", 5 GND "Device ground", 6 GDRV (out) "Driver output for external P-channel MOSFET", 7 ISNS (in) "Current-sense comparator input , Connect a current sense resistor between ISNS and VDD in order to set desired overcurrent threshold.", 8 VDD (power) "System input voltage. Connect local bypass capacitor from VDD to GND."

## XTR25020_Hi_Temp_230C_Power_Gate_DRiver
designator *
footprint LJCC28 (LCC, 28-Pins, Body 11.43x12.45mmx2.82mm, Pitch 1.27mm, IPC Medium Density)
pins: 1 PVSS (power), 2 XCOND_IN (in), 3 XCOND_OUT (out), 4 XCOND_EN (in), 5 EN (in), 6 IN_PU (in), 7 IN_PD (in), 8 IN_MC (in), 9 /IN_SSD (in), 10 HS_LSB (in), 11 RDY_FLT (io), 12 CLR_FLT (in), 13 VSS (power), 14 VDD (power), 15 VCC (power), 16 PVDD_PD (power), 17 UVLO (in), 18 SNS_S_N (in), 19 SNS_S_P (in), 20 PD_DR (out), 21 PVSS_PD (in), 22 PVSS_MC (in), 23 PD_MC (out), 24 PU_DR (out), 25 PVCC (power), 26 BST_N (in), 27 BST_P (in), 28 PVDD (power)